# Altium footprint library PcbLib1.PcbLib: 5 footprints
Each footprint in its own frame and in the unit in brackets; x right, y up, seen from the top. Pads: shape width x height; smd on the part's side, far side on the other; paste and mask are expansions set on the pad; w line width, h text height; cw(c..) or ccw(c..) is an arc to the next point about the centre after c.
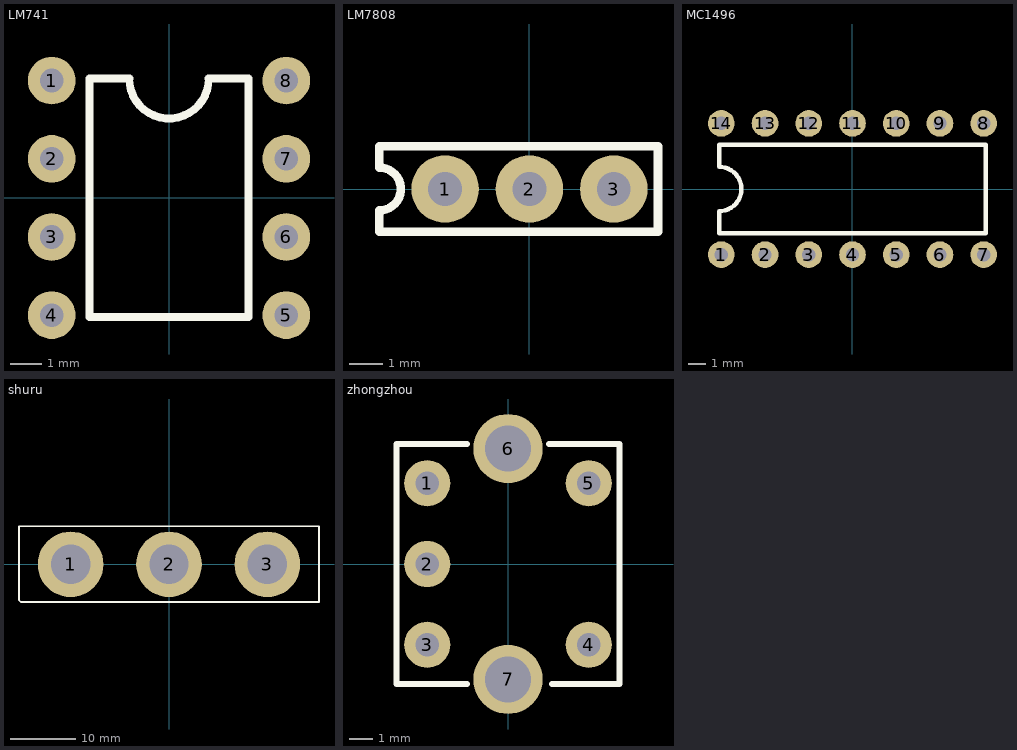
[diagram p0: the footprints below, top view; thin cyan lines are the x and y axes]

## LM741 [mil]
pads (8):
  round 60 hole 30: 1(-147.64,147.64) 2(-147.64,49.21) 3(-147.64,-49.21) 4(-147.64,-147.64) 5(147.64,-147.64) 6(147.64,-49.21) 7(147.64,49.21) 8(147.64,147.64)
Top Overlay:
  lines w10: -100,-150 100,-150 100,150 50,150 cw(c0,150) -50,150 -100,150 -100,-150

## LM7808 [mm]
pads (3):
  round 2 hole 1: 1(-2.5,0) 2(0,0) 3(2.5,0)
Top Overlay:
  lines w0.254: -4.445,-1.27 3.81,-1.27 3.81,1.27 -4.445,1.27 -4.445,0.635 cw(c-4.445,0) -4.445,-0.635 -4.445,-1.27

## MC1496 [mil]
pads (14):
  round 60 hole 30: 1(-295.28,-147.64) 2(-196.85,-147.64) 3(-98.43,-147.64) 4(0,-147.64) 5(98.43,-147.64) 6(196.85,-147.64) 7(295.28,-147.64) 8(295.28,147.64) 9(196.85,147.64) 10(98.43,147.64) 11(0,147.64) 12(-98.43,147.64) 13(-196.85,147.64) 14(-295.28,147.64)
Top Overlay:
  lines w10: -300,-100 -300,-50 ccw(c-300,0) -250,0 ccw(c-300,0) -300,50 -300,100 300,100 300,-100 -300,-100

## shuru [mm]
pads (3):
  round 10 hole 6: 1(-15,0) 2(0,0) 3(15,0)
Top Overlay:
  lines w0.254: -22.86,-5.461 -22.606,-5.715 22.86,-5.715 22.86,5.842 -22.86,5.842 -22.86,-5.461

## zhongzhou [mm]
pads (7):
  round 2 hole 1: 1(-3.5,3.5) 2(-3.5,0) 3(-3.5,-3.5) 4(3.5,-3.5) 5(3.5,3.5)
  round 3 hole 2: 6(0,5) 7(0,-5)
Top Overlay:
  lines w0.254: -1.778,-5.207 -4.826,-5.207 -4.826,5.207 -1.778,5.207 ; 1.778,5.207 4.826,5.207 4.826,-5.207 1.905,-5.207